# EAGLE library part N3428-6302RB (library 20 pin con clip)
CONN HEADER 20POS STR LONG LATCH Source: Datasheet <http://uk.rs-online.com/web/p/products/5429024>
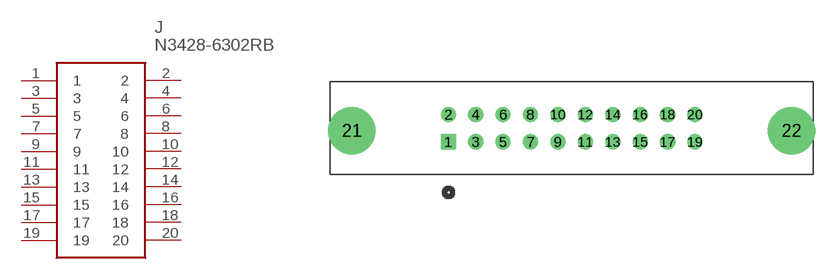
[diagram p0: symbol with the pads of 3M_N3428-6302RB; footprint 3M_N3428-6302RB]

Designator prefix J

## N3428-6302RB (Allied_Number: 70237763; Description: CONN HEADER 20POS STR LONG LATCH; Height: mm; Manufacturer_Name: 3M; Manufacturer_Part_Number: N3428-6302RB; RS_Part_Number: 5429024; RS_Price-Stock: http://uk.rs-online.com/web/p/products/5429024)  [3M_N3428-6302RB]
1  1
2  2
3  3
4  4
5  5
6  6
7  7
8  8
9  9
10  10
11  11
12  12
13  13
14  14
15  15
16  16
17  17
18  18
19  19
20  20

## Footprint 3M_N3428-6302RB (pad centres in mm)
3M_N3428-6302RB
drill 0.889 pad 1.333 square: 1 -22.86,-2.54
drill 0.889 pad 1.333: 2 -22.86,0; 3 -20.32,-2.54; 4 -20.32,0; 5 -17.78,-2.54; 6 -17.78,0; 7 -15.24,-2.54; 8 -15.24,0; 9 -12.7,-2.54; 10 -12.7,0; 11 -10.16,-2.54; 12 -10.16,0; 13 -7.62,-2.54; 14 -7.62,0; 15 -5.08,-2.54; 16 -5.08,0; 17 -2.54,-2.54; 18 -2.54,0; 19 0,-2.54; 20 0,0
drill 2.946 pad 4.42: 21 -31.801,-1.524; 22 8.941,-1.524